# Altium footprint library 10033526-N3212LF.PcbLib: 1 footprints
Each footprint in its own frame and in the unit in brackets; x right, y up, seen from the top. Pads: shape width x height; smd on the part's side, far side on the other; paste and mask are expansions set on the pad; w line width, h text height; cw(c..) or ccw(c..) is an arc to the next point about the centre after c.
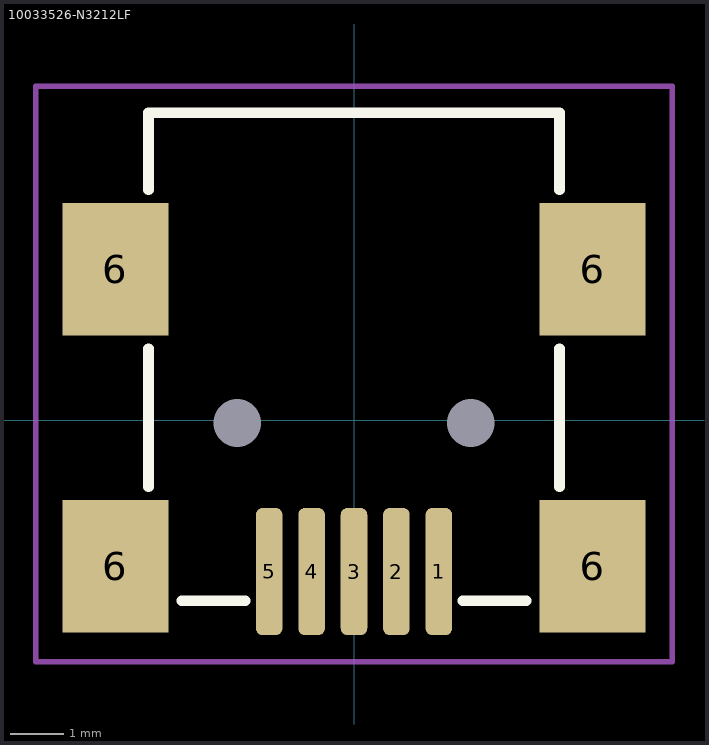
[diagram p0: the footprint, top view; thin cyan lines are the x and y axes]

## 10033526-N3212LF [mm] "CONN, USB MINI B, 5PIN, RIGHT ANGLE, SMD"
pads (11):
  rrect50% 0.5x2.4 smd mask+0.05: 1(1.6,-2.85) 2(0.8,-2.85) 3(0,-2.85) 4(-0.8,-2.85) 5(-1.6,-2.85)
  rect 2x2.5 smd: 6(-4.5,-2.75) 6(-4.5,2.85) 6(4.5,-2.75) 6(4.5,2.85)
  round 0.6 hole 0.9 unplated: ""(-2.2,-0.05) ""(2.2,-0.05)
Top Overlay:
  lines w0.2: -3.875,-1.25 -3.875,1.35 ; -3.875,4.35 -3.875,5.8 3.875,5.8 3.875,4.35 ; -3.25,-3.4 -2.05,-3.4 ; 2.05,-3.4 3.25,-3.4 ; 3.875,-1.25 3.875,1.35
Top Courtyard:
  lines w0.1: -6,-4.55 6,-4.55 6,6.3 -6,6.3 -6,-4.55
3D body "10033526-N3212LF--3DModel-STEP-554624.STEP": height 4, standoff -1, extent -4.95,-3.52 4.95,5.8